# Altium integrated library EEEFC0J470AR.IntLib: 1 symbol
Pins are listed as number, name and electrical type; pins without a type are passive.

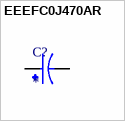
[diagram p0: symbol EEEFC0J470AR]

## EEEFC0J470AR
designator C?
Cap Aluminum Lytic 47uF 6.3V 20% (5 X 5.4mm) SMD 95mA 1000h 105C Automotive T/R; MP: EEEFC0J470AR; MF: Panasonic; Package: RADIAL-2 Panasonic; Purchase-URL: https://pricing.snapeda.com/search/part/EEEFC0J470AR/?ref=eda; SnapEDA_Link: https://www.snapeda.com/parts/EEEFC0J470AR/Panasonic/view-part/5794427/?ref=snap; Check_prices: https://www.snapeda.com/parts/EEEFC0J470AR/Panasonic/view-part/5794427/?ref=eda; Price: None; Value: *; Availability: In Stock
footprint CAP_EEEFC0J470AR
pins: 1, 2